# EAGLE library part ADAFRUIT-PRO-TRINKET-3.3V (library BOBs)
Adafruit Pro Trinket - 3.3V 12MHz
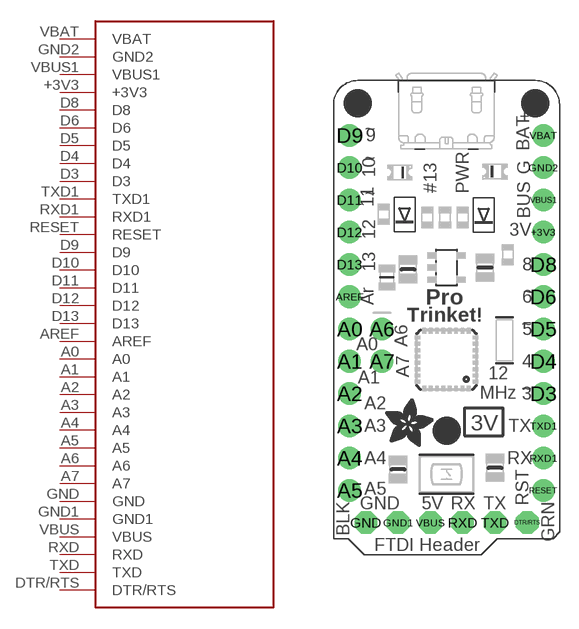
[diagram p2: symbol with the pads of ADAFRUIT-PRO-TRINKET-3.3V; footprint ADAFRUIT-PRO-TRINKET-3.3V]

Designator prefix -

## ADAFRUIT-PRO-TRINKET-3.3V-BOB (DIST: Adafruit; DISTPN: 2010)  [ADAFRUIT-PRO-TRINKET-3.3V]
+3V3  +3V3
A0  A0
A1  A1
A2  A2
A3  A3
A4  A4
A5  A5
A6  A6
A7  A7
AREF  AREF
D3  D3
D4  D4
D5  D5
D6  D6
D8  D8
D9  D9
D10  D10
D11  D11
D12  D12
D13  D13
DTR/RTS  DTR/RTS
GND  GND
GND1  GND1
GND2  GND2
RESET  RESET
RXD  RXD
RXD1  RXD1
TXD  TXD
TXD1  TXD1
VBAT  VBAT
VBUS  VBUS
VBUS1  VBUS1

## Footprint ADAFRUIT-PRO-TRINKET-3.3V (pad centres in mm)
drill 1.016 pad 1.778: +3V3 7.62,24.13; A0 -7.62,16.51; A1 -7.62,13.97; A2 -7.62,11.43; A3 -7.62,8.89; A4 -7.62,6.35; A5 -7.62,3.81; AREF -7.62,19.05; D3 7.62,11.43; D4 7.62,13.97; D5 7.62,16.51; D6 7.62,19.05; D8 7.62,21.59; D9 -7.62,31.75; D10 -7.62,29.21; D11 -7.62,26.67; D12 -7.62,24.13; D13 -7.62,21.59; GND2 7.62,29.21; RESET 7.62,3.81; RXD1 7.62,6.35; TXD1 7.62,8.89; VBAT 7.62,31.75; VBUS1 7.62,26.67
drill 1 pad 1.778: A6 -5.08,16.51; A7 -5.08,13.97
drill 1.016 pad 1.778 octagon: DTR/RTS 6.35,1.27; GND -6.35,1.27; GND1 -3.81,1.27; RXD 1.27,1.27; TXD 3.81,1.27; VBUS -1.27,1.27